# EAGLE library part TSW-135-02-S-Q (library con-samtec)
THROUGH-HOLE .025" SQ POST HEADER Source: Samtec TSW.pdf
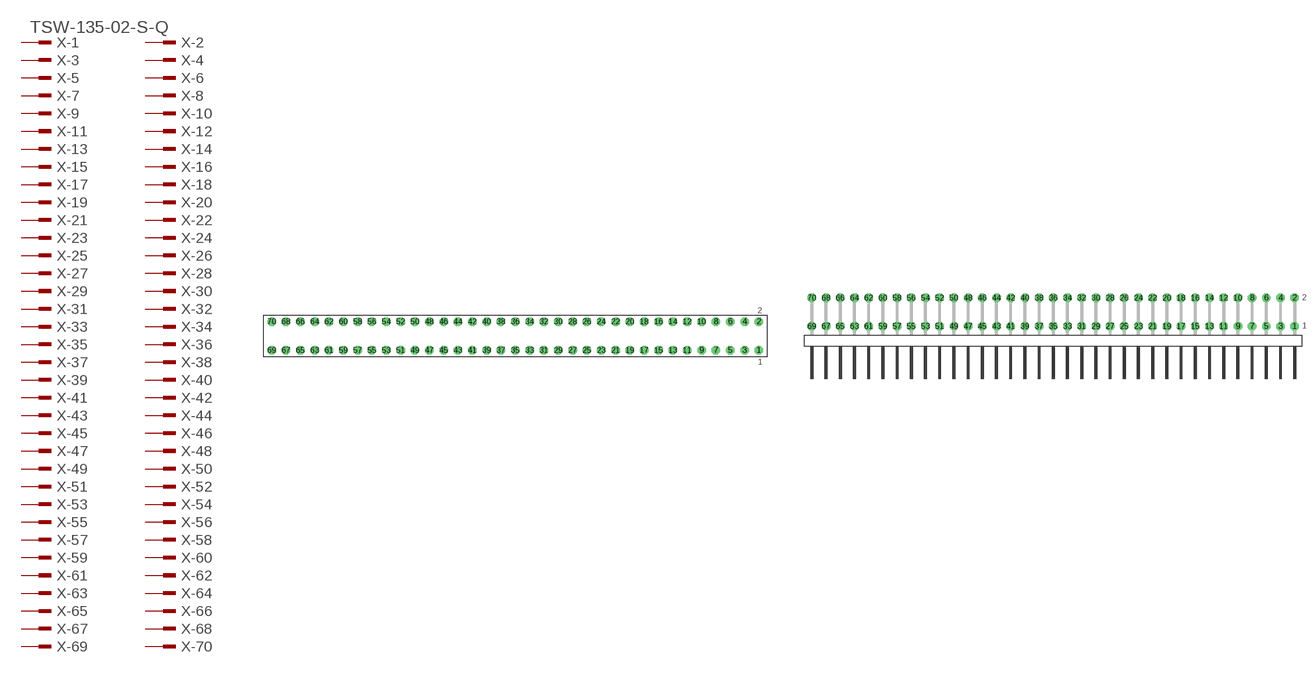
[diagram p255: symbol with the pads of TSW-135-02-S-Q; footprints TSW-135-02-S-Q, TSW-135-02-S-Q-RA]

Designator prefix X; gates -1=MPINV -2=MPIN -3=MPIN -4=MPIN -5=MPIN -6=MPIN -7=MPIN -8=MPIN -9=MPIN -10=MPIN -11=MPIN -12=MPIN -13=MPIN -14=MPIN -15=MPIN -16=MPIN -17=MPIN -18=MPIN -19=MPIN -20=MPIN -21=MPIN -22=MPIN -23=MPIN -24=MPIN -25=MPIN -26=MPIN -27=MPIN -28=MPIN -29=MPIN -30=MPIN -31=MPIN -32=MPIN -33=MPIN -34=MPIN -35=MPIN -36=MPIN -37=MPIN -38=MPIN -39=MPIN -40=MPIN -41=MPIN -42=MPIN -43=MPIN -44=MPIN -45=MPIN -46=MPIN -47=MPIN -48=MPIN -49=MPIN -50=MPIN -51=MPIN -52=MPIN -53=MPIN -54=MPIN -55=MPIN -56=MPIN -57=MPIN -58=MPIN -59=MPIN -60=MPIN -61=MPIN -62=MPIN -63=MPIN -64=MPIN -65=MPIN -66=MPIN -67=MPIN -68=MPIN -69=MPIN -70=MPIN

## TSW-135-02-S-Q (OC_FARNELL: unknown; OC_NEWARK: unknown)  [TSW-135-02-S-Q]
1  -1:1  pas
2  -2:1  pas
3  -3:1  pas
4  -4:1  pas
5  -5:1  pas
6  -6:1  pas
7  -7:1  pas
8  -8:1  pas
9  -9:1  pas
10  -10:1  pas
11  -11:1  pas
12  -12:1  pas
13  -13:1  pas
14  -14:1  pas
15  -15:1  pas
16  -16:1  pas
17  -17:1  pas
18  -18:1  pas
19  -19:1  pas
20  -20:1  pas
21  -21:1  pas
22  -22:1  pas
23  -23:1  pas
24  -24:1  pas
25  -25:1  pas
26  -26:1  pas
27  -27:1  pas
28  -28:1  pas
29  -29:1  pas
30  -30:1  pas
31  -31:1  pas
32  -32:1  pas
33  -33:1  pas
34  -34:1  pas
35  -35:1  pas
36  -36:1  pas
37  -37:1  pas
38  -38:1  pas
39  -39:1  pas
40  -40:1  pas
41  -41:1  pas
42  -42:1  pas
43  -43:1  pas
44  -44:1  pas
45  -45:1  pas
46  -46:1  pas
47  -47:1  pas
48  -48:1  pas
49  -49:1  pas
50  -50:1  pas
51  -51:1  pas
52  -52:1  pas
53  -53:1  pas
54  -54:1  pas
55  -55:1  pas
56  -56:1  pas
57  -57:1  pas
58  -58:1  pas
59  -59:1  pas
60  -60:1  pas
61  -61:1  pas
62  -62:1  pas
63  -63:1  pas
64  -64:1  pas
65  -65:1  pas
66  -66:1  pas
67  -67:1  pas
68  -68:1  pas
69  -69:1  pas
70  -70:1  pas

## TSW-135-02-S-Q-RA (OC_FARNELL: unknown; OC_NEWARK: unknown)  [TSW-135-02-S-Q-RA]
Pads as for TSW-135-02-S-Q

## Footprint TSW-135-02-S-Q (pad centres in mm)
THROUGH-HOLE .025" SQ POST HEADER Source: Samtec TSW.pdf
drill 1 pad 1.5 octagon: 1 43.18,-2.54; 2 43.18,2.54; 3 40.64,-2.54; 4 40.64,2.54; 5 38.1,-2.54; 6 38.1,2.54; 7 35.56,-2.54; 8 35.56,2.54; 9 33.02,-2.54; 10 33.02,2.54; 11 30.48,-2.54; 12 30.48,2.54; 13 27.94,-2.54; 14 27.94,2.54; 15 25.4,-2.54; 16 25.4,2.54; 17 22.86,-2.54; 18 22.86,2.54; 19 20.32,-2.54; 20 20.32,2.54; 21 17.78,-2.54; 22 17.78,2.54; 23 15.24,-2.54; 24 15.24,2.54; 25 12.7,-2.54; 26 12.7,2.54; 27 10.16,-2.54; 28 10.16,2.54; 29 7.62,-2.54; 30 7.62,2.54; 31 5.08,-2.54; 32 5.08,2.54; 33 2.54,-2.54; 34 2.54,2.54; 35 0,-2.54; 36 0,2.54; 37 -2.54,-2.54; 38 -2.54,2.54; 39 -5.08,-2.54; 40 -5.08,2.54; 41 -7.62,-2.54; 42 -7.62,2.54; 43 -10.16,-2.54; 44 -10.16,2.54; 45 -12.7,-2.54; 46 -12.7,2.54; 47 -15.24,-2.54; 48 -15.24,2.54; 49 -17.78,-2.54; 50 -17.78,2.54; 51 -20.32,-2.54; 52 -20.32,2.54; 53 -22.86,-2.54; 54 -22.86,2.54; 55 -25.4,-2.54; 56 -25.4,2.54; 57 -27.94,-2.54; 58 -27.94,2.54; 59 -30.48,-2.54; 60 -30.48,2.54; 61 -33.02,-2.54; 62 -33.02,2.54; 63 -35.56,-2.54; 64 -35.56,2.54; 65 -38.1,-2.54; 66 -38.1,2.54; 67 -40.64,-2.54; 68 -40.64,2.54; 69 -43.18,-2.54; 70 -43.18,2.54

## Footprint TSW-135-02-S-Q-RA (pad centres in mm)
THROUGH-HOLE .025" SQ POST HEADER Source: Samtec TSW.pdf
drill 1 pad 1.5 octagon: 1 43.18,1.524; 2 43.18,6.604; 3 40.64,1.524; 4 40.64,6.604; 5 38.1,1.524; 6 38.1,6.604; 7 35.56,1.524; 8 35.56,6.604; 9 33.02,1.524; 10 33.02,6.604; 11 30.48,1.524; 12 30.48,6.604; 13 27.94,1.524; 14 27.94,6.604; 15 25.4,1.524; 16 25.4,6.604; 17 22.86,1.524; 18 22.86,6.604; 19 20.32,1.524; 20 20.32,6.604; 21 17.78,1.524; 22 17.78,6.604; 23 15.24,1.524; 24 15.24,6.604; 25 12.7,1.524; 26 12.7,6.604; 27 10.16,1.524; 28 10.16,6.604; 29 7.62,1.524; 30 7.62,6.604; 31 5.08,1.524; 32 5.08,6.604; 33 2.54,1.524; 34 2.54,6.604; 35 0,1.524; 36 0,6.604; 37 -2.54,1.524; 38 -2.54,6.604; 39 -5.08,1.524; 40 -5.08,6.604; 41 -7.62,1.524; 42 -7.62,6.604; 43 -10.16,1.524; 44 -10.16,6.604; 45 -12.7,1.524; 46 -12.7,6.604; 47 -15.24,1.524; 48 -15.24,6.604; 49 -17.78,1.524; 50 -17.78,6.604; 51 -20.32,1.524; 52 -20.32,6.604; 53 -22.86,1.524; 54 -22.86,6.604; 55 -25.4,1.524; 56 -25.4,6.604; 57 -27.94,1.524; 58 -27.94,6.604; 59 -30.48,1.524; 60 -30.48,6.604; 61 -33.02,1.524; 62 -33.02,6.604; 63 -35.56,1.524; 64 -35.56,6.604; 65 -38.1,1.524; 66 -38.1,6.604; 67 -40.64,1.524; 68 -40.64,6.604; 69 -43.18,1.524; 70 -43.18,6.604